# Altium schematic symbol library LED-GREEN.SchLib: 1 symbol
Pins are listed as number, name and electrical type; pins without a type are passive.

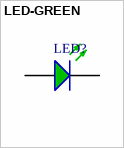
[diagram p0: symbol LED-GREEN]

## LED-GREEN
designator LED?
LED,GREEN
pins: 1 K, 2 A